# EAGLE library part 689106131822 (library WR-WTB)
WR-WTB 0.80 mm Male Header Characteristics Properties: Rated Current: 0.5 A Working Voltage: 30 V Operating temperature: -25 °C to +85 °C UL 94-V0 Features: Fine pitch SMT soldering Applications Microelectronic Portable devices Industry 4.0 Details see: www.we-online.com/en/components/products/WR-WTB_0_8_MALE_HEADER#/articles/WR-WTB_08_MM_MALE_SIZE_HORIZONTAL Created by Ella 2025-03-06 2025 (C) Würth Elektronik
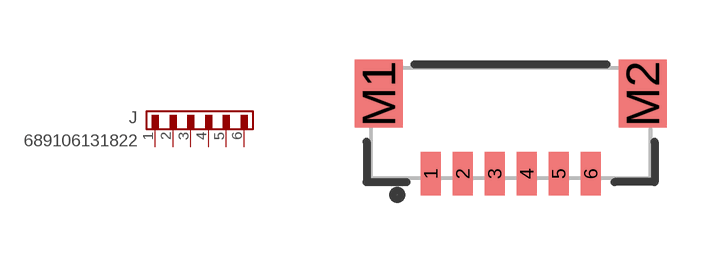
[diagram p135: symbol with the pads of 689106131822; footprint 689106131822]

Designator prefix J

## 689106131822 (CONTACT-RESISTANCE: 20mOhm; DATASHEET: https://www.we-online.com/redexpert/spec/689106131822?ae; GENDER: Male; IR: 0.5A; L: 7mm; MOUNT: SMT; PACKAGING: Tape and Reel with Cap; PART-NUMBER: 689106131822; PCB-CABLE-PANEL: PCB; PINS: 6; PITCH: 0.8mm; TYPE: Horizontal; VALUE: 689106131822; WORKING-VOLTAGE: 30V(AC))  [689106131822]
1  1  pas
2  2  pas
3  3  pas
4  4  pas
5  5  pas
6  6  pas

## Footprint 689106131822 (pad centres in mm)
WR-WTB 0.80 mm Male Header Horizontal, SMT, 6Pins
smd 0.5 x 1.1: 1 -2,0; 2 -1.2,0; 3 -0.4,0; 4 0.4,0; 5 1.2,0; 6 2,0
smd 1.2 x 1.7: M1 -3.3,2; M2 3.3,2